# Altium schematic symbol library SN65LVDS4.SchLib: 1 symbol
Pins are listed as number, name and electrical type; pins without a type are passive.

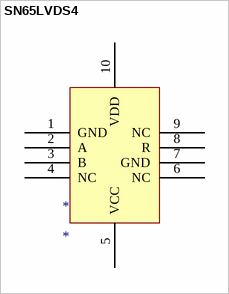
[diagram p0: symbol SN65LVDS4]

## SN65LVDS4
designator *
1.8-V High-Speed  Differential  Line Receiver
footprint SN65LVDS4RSER (SN65LVDS4  1.8-V High-Speed  Differential  Line Receiver)
pins: 1 GND, 2 A, 3 B, 4 NC, 5 VCC, 6 NC, 7 GND, 8 R, 9 NC, 10 VDD